# Altium footprint library Module.PcbLib: 12 footprints
Each footprint in its own frame and in the unit in brackets; x right, y up, seen from the top. Pads: shape width x height; smd on the part's side, far side on the other; paste and mask are expansions set on the pad; w line width, h text height; cw(c..) or ccw(c..) is an arc to the next point about the centre after c.
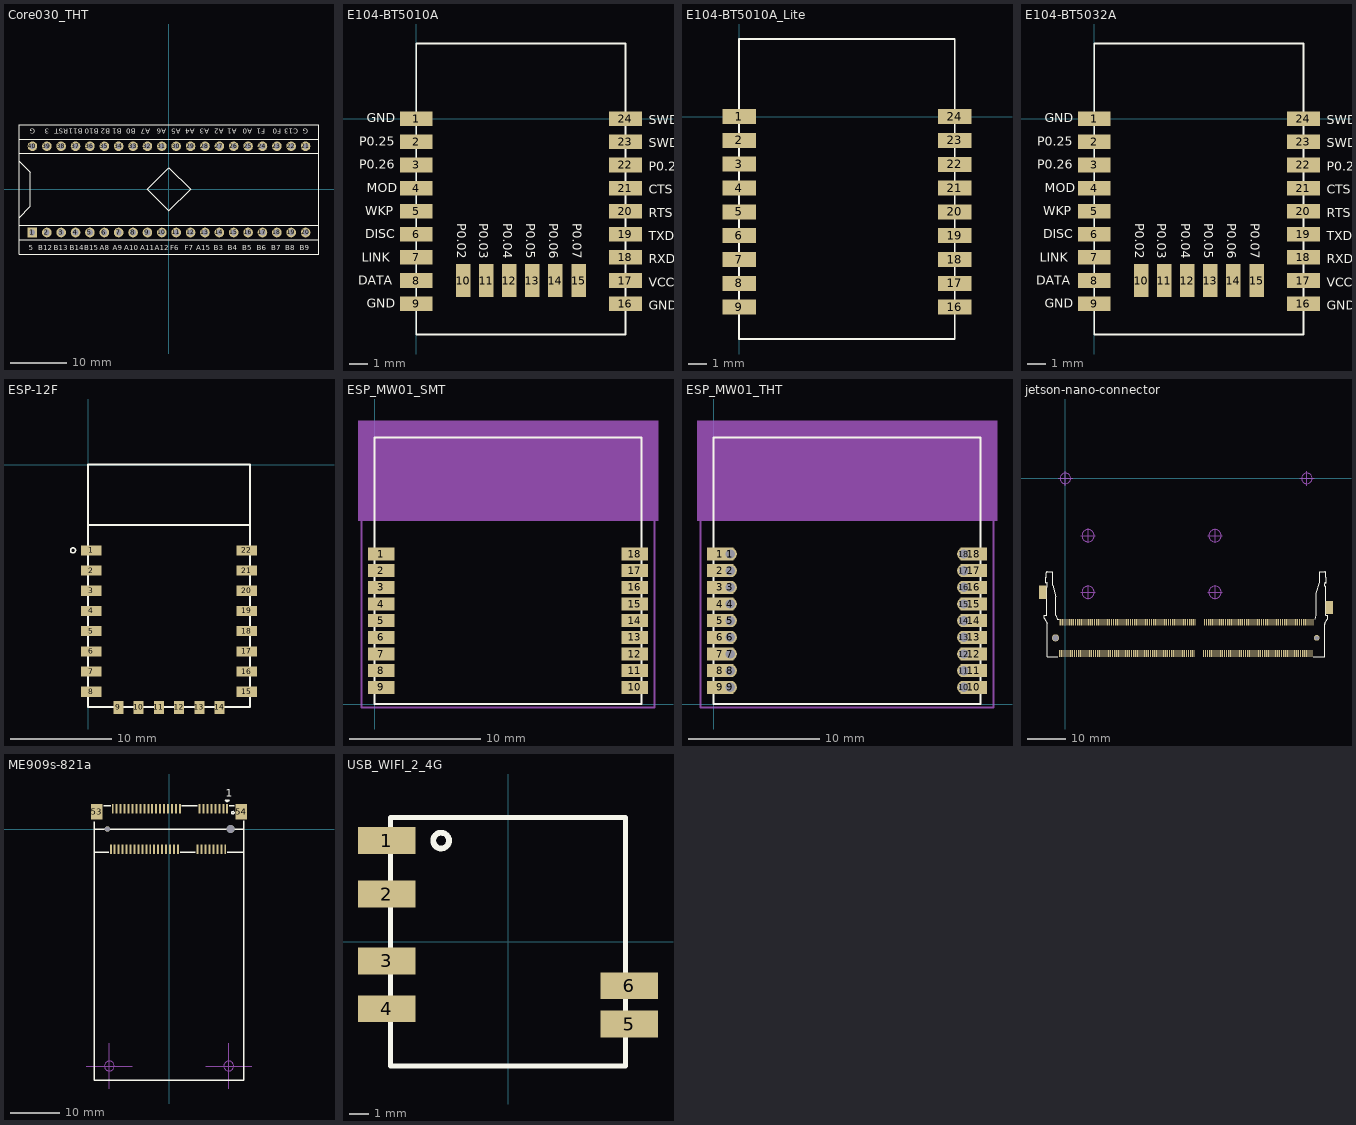
[diagram p0: the footprints below, top view; thin cyan lines are the x and y axes]

## Core030_THT [mm]
pads (40):
  rect 1.7x1.7 hole 1: 1(-24.13,-7.62)
  round 1.7 hole 1: 2(-21.59,-7.62) 3(-19.05,-7.62) 4(-16.51,-7.62) 5(-13.97,-7.62) 6(-11.43,-7.62) 7(-8.89,-7.62) 8(-6.35,-7.62) 9(-3.81,-7.62) 10(-1.27,-7.62) 11(1.27,-7.62) 12(3.81,-7.62) 13(6.35,-7.62) 14(8.89,-7.62) 15(11.43,-7.62) 16(13.97,-7.62) 17(16.51,-7.62) 18(19.05,-7.62) 19(21.59,-7.62) 20(24.13,-7.62) 21(24.13,7.62) 22(21.59,7.62) 23(19.05,7.62) 24(16.51,7.62) 25(13.97,7.62) 26(11.43,7.62) 27(8.89,7.62) 28(6.35,7.62) 29(3.81,7.62) 30(1.27,7.62) 31(-1.27,7.62) 32(-3.81,7.62) 33(-6.35,7.62) 34(-8.89,7.62) 35(-11.43,7.62) 36(-13.97,7.62) 37(-16.51,7.62) 38(-19.05,7.62) 39(-21.59,7.62) 40(-24.13,7.62)
Top Overlay:
  lines w0.2: -26.5,-8.89 26.5,-8.89 ; -26.5,-6.35 26.5,-6.35 ; -26.5,-5 -24.5,-3 -24.5,3 -26.5,5 ; -26.5,6.35 26.5,6.35 ; -26.5,8.89 26.5,8.89 ; -26.5,-11.43 -26.5,11.43 26.5,11.43 26.5,-11.43 -26.5,-11.43 ; -3.81,0 0,-3.81 3.81,0 0,3.81 -3.81,0
  text "B0" at -5.842,10.668 h0.89
  text "A2" at 9.652,10.668 h0.89
  text "3" at -21.115,10.668 h0.89
  text "A7" at -3.302,10.668 h0.89
  text "B10" at -12.446,10.668 h0.89
  text "F0" at 19.812,10.668 h0.89
  text "B11" at -15.24,10.668 h0.89
  text "A5" at 2.032,10.668 h0.89
  text "A4" at 4.572,10.668 h0.89
  text "B1" at -8.382,10.668 h0.89
  text "A1" at 11.938,10.668 h0.89
  text "C13" at 22.86,10.668 h0.89
  text "RST" at -17.78,10.668 h0.89
  text "G" at 24.638,10.668 h0.89
  text "B2" at -10.414,10.668 h0.89
  text "F1" at 17.018,10.668 h0.89
  text "A6" at -0.508,10.668 h0.89
  text "A0" at 14.732,10.668 h0.89
  text "A3" at 7.112,10.668 h0.89
  text "G" at -23.622,10.668 h0.89
  text "B7" at 18.034,-10.795 h0.89
  text "5" at -24.765,-10.795 h0.89
  text "B6" at 15.494,-10.795 h0.89
  text "A11" at -5.08,-10.795 h0.89
  text "B9" at 23.114,-10.795 h0.89
  text "A9" at -9.906,-10.795 h0.89
  text "B3" at 7.874,-10.795 h0.89
  text "B8" at 20.574,-10.795 h0.89
  text "B5" at 12.954,-10.795 h0.89
  text "B13" at -20.32,-10.795 h0.89
  text "B14" at -17.526,-10.795 h0.89
  text "A10" at -7.874,-10.795 h0.89
  text "B15" at -14.986,-10.795 h0.89
  text "A12" at -2.54,-10.795 h0.89
  text "A8" at -12.192,-10.795 h0.89
  text "B4" at 10.414,-10.795 h0.89
  text "A15" at 4.826,-10.795 h0.89
  text "F6" at 0.254,-10.795 h0.89
  text "F7" at 2.794,-10.795 h0.89
  text "B12" at -23.114,-10.795 h0.89

## E104-BT5010A [mm]
pads (24):
  rect 1.8x0.8 smd: 1(0,0) 2(0,-1.27) 3(0,-2.54) 4(0,-3.81) 5(0,-5.08) 6(0,-6.35) 7(0,-7.62) 8(0,-8.89) 9(0,-10.16) 16(11.5,-10.16) 17(11.5,-8.89) 18(11.5,-7.62) 19(11.5,-6.35) 20(11.5,-5.08) 21(11.5,-3.81) 22(11.5,-2.54) 23(11.5,-1.27) 24(11.5,0)
  rect 0.8x1.8 smd: 10(2.575,-8.89) 11(3.845,-8.89) 12(5.115,-8.89) 13(6.385,-8.89) 14(7.655,-8.89) 15(8.925,-8.89)
Top Overlay:
  lines w0.1: 0,-11.86 11.5,-11.86 11.5,4.14 0,4.14 0,-11.86
  text "GND" at -2.709,-0.2 h0.5
  text "P0.25" at -3.137,-1.475 h0.5
  text "P0.26" at -3.137,-2.75 h0.5
  text "MOD" at -2.709,-4.025 h0.5
  text "WKP" at -2.812,-5.3 h0.5
  text "DISC" at -2.806,-6.575 h0.5
  text "LINK" at -2.997,-7.85 h0.5
  text "DATA" at -3.2,-9.125 h0.5
  text "VCC" at 12.791,-9.225 h0.5
  text "RXD" at 12.791,-7.95 h0.5
  text "TXD" at 12.791,-6.675 h0.5
  text "RTS" at 12.791,-5.4 h0.5
  text "CTS" at 12.791,-4.125 h0.5
  text "P0.21/RST" at 12.791,-2.85 h0.5
  text "SWDCLK" at 12.791,-1.575 h0.5
  text "SWDIO" at 12.791,-0.3 h0.5
  text "P0.07" at 8.595,-5.737 h0.5
  text "P0.05" at 6.055,-5.737 h0.5
  text "P0.04" at 4.785,-5.737 h0.5
  text "P0.02" at 2.256,-5.737 h0.5
  text "P0.06" at 7.325,-5.737 h0.5
  text "P0.03" at 3.454,-5.737 h0.5
  text "GND" at -2.709,-10.4 h0.5
  text "GND" at 12.791,-10.5 h0.5

## E104-BT5010A_Lite [mm]
pads (18):
  rect 1.8x0.8 smd: 1(0,0) 2(0,-1.27) 3(0,-2.54) 4(0,-3.81) 5(0,-5.08) 6(0,-6.35) 7(0,-7.62) 8(0,-8.89) 9(0,-10.16) 16(11.5,-10.16) 17(11.5,-8.89) 18(11.5,-7.62) 19(11.5,-6.35) 20(11.5,-5.08) 21(11.5,-3.81) 22(11.5,-2.54) 23(11.5,-1.27) 24(11.5,0)
Top Overlay:
  lines w0.1: 0,-11.86 0,4.14 11.5,4.14 11.5,-11.86 0,-11.86
3D body: height 0.8, standoff 0, extent 0,-11.862 11.506,4.14
3D body: height 1.6, standoff 0.8, extent 0.711,-11.049 10.922,0.991

## E104-BT5032A [mm]
pads (24):
  rect 1.8x0.8 smd: 1(0,0) 2(0,-1.27) 3(0,-2.54) 4(0,-3.81) 5(0,-5.08) 6(0,-6.35) 7(0,-7.62) 8(0,-8.89) 9(0,-10.16) 16(11.5,-10.16) 17(11.5,-8.89) 18(11.5,-7.62) 19(11.5,-6.35) 20(11.5,-5.08) 21(11.5,-3.81) 22(11.5,-2.54) 23(11.5,-1.27) 24(11.5,0)
  rect 0.8x1.8 smd: 10(2.575,-8.89) 11(3.845,-8.89) 12(5.115,-8.89) 13(6.385,-8.89) 14(7.655,-8.89) 15(8.925,-8.89)
Top Overlay:
  lines w0.1: 0,-11.86 0,4.14 11.5,4.14 11.5,-11.86 0,-11.86
  text "GND" at 12.791,-10.5 h0.5
  text "GND" at -2.709,-10.4 h0.5
  text "P0.03" at 3.454,-5.737 h0.5
  text "P0.06" at 7.325,-5.737 h0.5
  text "P0.02" at 2.256,-5.737 h0.5
  text "P0.04" at 4.785,-5.737 h0.5
  text "P0.05" at 6.055,-5.737 h0.5
  text "P0.07" at 8.595,-5.737 h0.5
  text "SWDIO" at 12.791,-0.3 h0.5
  text "SWDCLK" at 12.791,-1.575 h0.5
  text "P0.21/RST" at 12.791,-2.85 h0.5
  text "CTS" at 12.791,-4.125 h0.5
  text "RTS" at 12.791,-5.4 h0.5
  text "TXD" at 12.791,-6.675 h0.5
  text "RXD" at 12.791,-7.95 h0.5
  text "VCC" at 12.791,-9.225 h0.5
  text "DATA" at -3.2,-9.125 h0.5
  text "LINK" at -2.997,-7.85 h0.5
  text "DISC" at -2.806,-6.575 h0.5
  text "WKP" at -2.812,-5.3 h0.5
  text "MOD" at -2.709,-4.025 h0.5
  text "P0.26" at -3.137,-2.75 h0.5
  text "P0.25" at -3.137,-1.475 h0.5
  text "GND" at -2.709,-0.2 h0.5

## ESP-12F [mm]
pads (22):
  rect 2x1 smd: 1(0.3,-8.5) 2(0.3,-10.5) 3(0.3,-12.5) 4(0.3,-14.5) 5(0.3,-16.5) 6(0.3,-18.5) 7(0.3,-20.5) 8(0.3,-22.5) 15(15.7,-22.5) 16(15.7,-20.5) 17(15.7,-18.5) 18(15.7,-16.5) 19(15.7,-14.5) 20(15.7,-12.5) 21(15.7,-10.5) 22(15.7,-8.5)
  rect 1x1.3 smd: 9(3,-24.05) 10(5,-24.05) 11(7,-24.05) 12(9,-24.05) 13(11,-24.05) 14(13,-24.05)
Top Overlay:
  circle w0.152: c-1.5,-8.5 r0.25
  lines w0.203: 0,-6 16,-6 ; 0,-24 0,0 16,0 16,-24 0,-24
Multi-Layer:
  pour cut-out: -5,-6 21,-6 21,5 -5,5

## ESP_MW01_SMT [mm]
pads (18):
  rect 2x1 smd: 1(0.508,11.43) 2(0.508,10.16) 3(0.508,8.89) 4(0.508,7.62) 5(0.508,6.35) 6(0.508,5.08) 7(0.508,3.81) 8(0.508,2.54) 9(0.508,1.27) 10(19.812,1.27) 11(19.812,2.54) 12(19.812,3.81) 13(19.812,5.08) 14(19.812,6.35) 15(19.812,7.62) 16(19.812,8.89) 17(19.812,10.16) 18(19.812,11.43)
Top Overlay:
  lines w0.152: 0,0 0,20.32 20.32,20.32 20.32,0 0,0
Mechanical 15:
  pour cut-out: -1.27,21.59 21.59,21.59 21.59,13.97 -1.27,13.97
  lines w0.152: -1.016,-0.254 21.336,-0.254 21.336,21.082 -1.016,21.082 -1.016,-0.254
3D body "ESP_MW01.step": height 2.45, standoff 0.2, extent 0,0 20.32,20.32

## ESP_MW01_THT [mm]
pads (36):
  rect 2x1 smd: 1(0.508,11.43) 2(0.508,10.16) 3(0.508,8.89) 4(0.508,7.62) 5(0.508,6.35) 6(0.508,5.08) 7(0.508,3.81) 8(0.508,2.54) 9(0.508,1.27) 10(19.812,1.27) 11(19.812,2.54) 12(19.812,3.81) 13(19.812,5.08) 14(19.812,6.35) 15(19.812,7.62) 16(19.812,8.89) 17(19.812,10.16) 18(19.812,11.43)
  round 1 hole 0.7: 1(1.27,11.43) 2(1.27,10.16) 3(1.27,8.89) 4(1.27,7.62) 5(1.27,6.35) 6(1.27,5.08) 7(1.27,3.81) 8(1.27,2.54) 9(1.27,1.27) 10(19.05,1.27) 11(19.05,2.54) 12(19.05,3.81) 13(19.05,5.08) 14(19.05,6.35) 15(19.05,7.62) 16(19.05,8.89) 17(19.05,10.16) 18(19.05,11.43)
Top Overlay:
  lines w0.152: 0,0 0,20.32 20.32,20.32 20.32,0 0,0
Mechanical 15:
  pour cut-out: -1.27,21.59 21.59,21.59 21.59,13.97 -1.27,13.97
  lines w0.152: -1.016,-0.254 21.336,-0.254 21.336,21.082 -1.016,21.082 -1.016,-0.254
3D body "PinHeader_1x09_P1.27mm_Vertical.step": height 16.3, standoff 10, extent 18,0.635 20.1,12.065
3D body "PinHeader_1x09_P1.27mm_Vertical.step": height 16.3, standoff 10, extent 0.22,0.635 2.32,12.065
3D body "ESP_MW01.step": height 16.45, standoff 14.2, extent 0,0 20.32,20.32
3D body "PinSocket_1x09_P1.27mm_Vertical.step": height 4.4, standoff -2.6, extent 0,0.635 2.54,12.065
3D body "PinSocket_1x09_P1.27mm_Vertical.step": height 4.4, standoff -2.6, extent 17.78,0.635 20.32,12.065

## jetson-nano-connector [mm]
pads (264):
  rect 0.3x1.75 smd paste-0.05: 1(-1.575,-46.1) 2(-1.325,-37.9) 3(-1.075,-46.1) 4(-0.825,-37.9) 5(-0.575,-46.1) 6(-0.325,-37.9) 7(-0.075,-46.1) 8(0.175,-37.9) 9(0.425,-46.1) 10(0.675,-37.9) 11(0.925,-46.1) 12(1.175,-37.9) 13(1.425,-46.1) 14(1.675,-37.9) 15(1.925,-46.1) 16(2.175,-37.9) 17(2.425,-46.1) 18(2.675,-37.9) 19(2.925,-46.1) 20(3.175,-37.9) 21(3.425,-46.1) 22(3.675,-37.9) 23(3.925,-46.1) 24(4.175,-37.9) 25(4.425,-46.1) 26(4.675,-37.9) 27(4.925,-46.1) 28(5.175,-37.9) 29(5.425,-46.1) 30(5.675,-37.9) 31(5.925,-46.1) 32(6.175,-37.9) 33(6.425,-46.1) 34(6.675,-37.9) 35(6.925,-46.1) 36(7.175,-37.9) 37(7.425,-46.1) 38(7.675,-37.9) 39(7.925,-46.1) 40(8.175,-37.9) 41(8.425,-46.1) 42(8.675,-37.9) 43(8.925,-46.1) 44(9.175,-37.9) 45(9.425,-46.1) 46(9.675,-37.9) 47(9.925,-46.1) 48(10.175,-37.9) 49(10.425,-46.1) 50(10.675,-37.9) 51(10.925,-46.1) 52(11.175,-37.9) 53(11.425,-46.1) 54(11.675,-37.9) 55(11.925,-46.1) 56(12.175,-37.9) 57(12.425,-46.1) 58(12.675,-37.9) 59(12.925,-46.1) 60(13.175,-37.9) 61(13.425,-46.1) 62(13.675,-37.9) 63(13.925,-46.1) 64(14.175,-37.9) 65(14.425,-46.1) 66(14.675,-37.9) 67(14.925,-46.1) 68(15.175,-37.9) 69(15.425,-46.1) 70(15.675,-37.9) 71(15.925,-46.1) 72(16.175,-37.9) 73(16.425,-46.1) 74(16.675,-37.9) 75(16.925,-46.1) 76(17.175,-37.9) 77(17.425,-46.1) 78(17.675,-37.9) 79(17.925,-46.1) 80(18.175,-37.9) 81(18.425,-46.1) 82(18.675,-37.9) 83(18.925,-46.1) 84(19.175,-37.9) 85(19.425,-46.1) 86(19.675,-37.9) 87(19.925,-46.1) 88(20.175,-37.9) 89(20.425,-46.1) 90(20.675,-37.9) 91(20.925,-46.1) 92(21.175,-37.9) 93(21.425,-46.1) 94(21.675,-37.9) 95(21.925,-46.1) 96(22.175,-37.9) 97(22.425,-46.1) 98(22.675,-37.9) 99(22.925,-46.1) 100(23.175,-37.9) 101(23.425,-46.1) 102(23.675,-37.9) 103(23.925,-46.1) 104(24.175,-37.9) 105(24.425,-46.1) 106(24.675,-37.9) 107(24.925,-46.1) 108(25.175,-37.9) 109(25.425,-46.1) 110(25.675,-37.9) 111(25.925,-46.1) 112(26.175,-37.9) 113(26.425,-46.1) 114(26.675,-37.9) 115(26.925,-46.1) 116(27.175,-37.9) 117(27.425,-46.1) 118(27.675,-37.9) 119(27.925,-46.1) 120(28.175,-37.9) 121(28.425,-46.1) 122(28.675,-37.9) 123(28.925,-46.1) 124(29.175,-37.9) 125(29.425,-46.1) 126(29.675,-37.9) 127(29.925,-46.1) 128(30.175,-37.9) 129(30.425,-46.1) 130(30.675,-37.9) 131(30.925,-46.1) 132(31.175,-37.9) 133(31.425,-46.1) 134(31.675,-37.9) 135(31.925,-46.1) 136(32.175,-37.9) 137(32.425,-46.1) 138(32.675,-37.9) 139(32.925,-46.1) 140(33.175,-37.9) 141(33.425,-46.1) 142(33.675,-37.9) 143(33.925,-46.1) 144(34.175,-37.9) 145(36.425,-46.1) 146(36.675,-37.9) 147(36.925,-46.1) 148(37.175,-37.9) 149(37.425,-46.1) 150(37.675,-37.9) 151(37.925,-46.1) 152(38.175,-37.9) 153(38.425,-46.1) 154(38.675,-37.9) 155(38.925,-46.1) 156(39.175,-37.9) 157(39.425,-46.1) 158(39.675,-37.9) 159(39.925,-46.1) 160(40.175,-37.9) 161(40.425,-46.1) 162(40.675,-37.9) 163(40.925,-46.1) 164(41.175,-37.9) 165(41.425,-46.1) 166(41.675,-37.9) 167(41.925,-46.1) 168(42.175,-37.9) 169(42.425,-46.1) 170(42.675,-37.9) 171(42.925,-46.1) 172(43.175,-37.9) 173(43.425,-46.1) 174(43.675,-37.9) 175(43.925,-46.1) 176(44.175,-37.9) 177(44.425,-46.1) 178(44.675,-37.9) 179(44.925,-46.1) 180(45.175,-37.9) 181(45.425,-46.1) 182(45.675,-37.9) 183(45.925,-46.1) 184(46.175,-37.9) 185(46.425,-46.1) 186(46.675,-37.9) 187(46.925,-46.1) 188(47.175,-37.9) 189(47.425,-46.1) 190(47.675,-37.9) 191(47.925,-46.1) 192(48.175,-37.9) 193(48.425,-46.1) 194(48.675,-37.9) 195(48.925,-46.1) 196(49.175,-37.9) 197(49.425,-46.1) 198(49.675,-37.9) 199(49.925,-46.1) 200(50.175,-37.9) 201(50.425,-46.1) 202(50.675,-37.9) 203(50.925,-46.1) 204(51.175,-37.9) 205(51.425,-46.1) 206(51.675,-37.9) 207(51.925,-46.1) 208(52.175,-37.9) 209(52.425,-46.1) 210(52.675,-37.9) 211(52.925,-46.1) 212(53.175,-37.9) 213(53.425,-46.1) 214(53.675,-37.9) 215(53.925,-46.1) 216(54.175,-37.9) 217(54.425,-46.1) 218(54.675,-37.9) 219(54.925,-46.1) 220(55.175,-37.9) 221(55.425,-46.1) 222(55.675,-37.9) 223(55.925,-46.1) 224(56.175,-37.9) 225(56.425,-46.1) 226(56.675,-37.9) 227(56.925,-46.1) 228(57.175,-37.9) 229(57.425,-46.1) 230(57.675,-37.9) 231(57.925,-46.1) 232(58.175,-37.9) 233(58.425,-46.1) 234(58.675,-37.9) 235(58.925,-46.1) 236(59.175,-37.9) 237(59.425,-46.1) 238(59.675,-37.9) 239(59.925,-46.1) 240(60.175,-37.9) 241(60.425,-46.1) 242(60.675,-37.9) 243(60.925,-46.1) 244(61.175,-37.9) 245(61.425,-46.1) 246(61.675,-37.9) 247(61.925,-46.1) 248(62.175,-37.9) 249(62.425,-46.1) 250(62.675,-37.9) 251(62.925,-46.1) 252(63.175,-37.9) 253(63.425,-46.1) 254(63.675,-37.9) 255(63.925,-46.1) 256(64.175,-37.9) 257(64.425,-46.1) 258(64.675,-37.9) 259(64.925,-46.1) 260(65.175,-37.9)
  rect 2x3.5 smd paste-0.05: 261(69.525,-34) 262(-5.975,-30)
  round 1.9 hole 1.6 unplated: M(-2.6,-42)
  round 1.5 hole 1.1 unplated: M(66.2,-42)
Top Overlay:
  lines w0.1: -4.954,-28.6 -4.954,-36 -5.5,-36.05 ; -4.878,-28.6 ccw(c-4.878,-28.45) -4.728,-28.45 -4.728,-27.667 ccw(c-4.878,-27.667) -4.878,-27.517 -5.127,-27.517 -5.127,-26.028 -4.978,-26.028 -4.978,-24.813 cw(c-4.778,-24.813) -4.778,-24.613 -3.871,-24.613 -3.871,-24.61 -3.371,-24.61 -3.371,-28.128 -2.5,-31.166 -2.5,-36.05 -2.15,-37.15 -1.65,-37.15 ; 65.85,-37.15 66.1,-36.05 ; -5.5,-36.813 ccw(c-5,-36.813) -5.43,-37.068 ; -5.5,-36.813 ccw(c-5,-36.813) -5.43,-37.068 ; -5.5,-36.813 -5.5,-36.05 ; -5.5,-36.813 -5.5,-36.05 ; -5.43,-37.068 -4.77,-38.182 ; -5.43,-37.068 -4.77,-38.182 ; -4.77,-38.182 cw(c-5.2,-38.437) -4.7,-38.437 ; -4.77,-38.182 cw(c-5.2,-38.437) -4.7,-38.437 ; -4.7,-47 -1.95,-47 -4.7,-47 ; -4.7,-47 -4.7,-38.437 ; -4.7,-47 -4.7,-38.437 ; 66.1,-36.05 66.1,-30.318 ; 66.1,-36.05 66.1,-30.318 ; 66.1,-30.318 66.98,-27.318 66.98,-24.595 67.59,-24.595 ccw(c67.63,-24.45) 67.63,-24.6 68.35,-24.6 cw(c68.35,-24.8) 68.55,-24.8 68.55,-26 68.736,-26 68.736,-27.5 68.5,-27.5 ccw(c68.5,-27.7) 68.3,-27.7 68.3,-28.3 ccw(c68.5,-28.3) 68.5,-28.5 68.545,-28.5 68.545,-36 69.1,-36.05 ; 68.3,-47 65.3,-47 68.3,-47 ; 68.3,-47 68.3,-38.437 ; 68.3,-47 68.3,-38.437 ; 68.3,-38.437 cw(c68.8,-38.437) 68.37,-38.182 ; 68.3,-38.437 cw(c68.8,-38.437) 68.37,-38.182 ; 68.37,-38.182 69.03,-37.068 ; 68.37,-38.182 69.03,-37.068 ; 69.03,-37.068 ccw(c68.6,-36.813) 69.1,-36.813 ; 69.03,-37.068 ccw(c68.6,-36.813) 69.1,-36.813 ; 69.1,-36.813 69.1,-36.05 ; 69.1,-36.813 69.1,-36.05
Mechanical 3:
  circle w0.1: c63.6,0 r1.375
  circle w0.1: c39.413,-30.002 r1.6
  circle w0.1: c39.413,-15.098 r1.6
  circle w0.1: c5.987,-15.098 r1.6
  circle w0.1: c5.987,-30.002 r1.6
  circle w0.1: c0,0 r1.375
  lines w0.1: -1.9,0 0,0 ; 0,-1.9 0,0 ; 0,1.9 0,0 ; 1.9,0 0,0 ; 4.094,-29.997 5.994,-29.997 ; 4.094,-15.088 5.994,-15.088 ; 5.994,-31.897 5.994,-29.997 ; 5.994,-28.097 5.994,-29.997 ; 5.994,-16.988 5.994,-15.088 ; 5.994,-13.188 5.994,-15.088 ; 7.894,-29.997 5.994,-29.997 ; 7.894,-15.088 5.994,-15.088 ; 37.521,-29.997 39.421,-29.997 ; 37.521,-15.113 39.421,-15.113 ; 39.421,-31.897 39.421,-29.997 ; 39.421,-28.097 39.421,-29.997 ; 39.421,-17.013 39.421,-15.113 ; 39.421,-13.213 39.421,-15.113 ; 41.321,-29.997 39.421,-29.997 ; 41.321,-15.113 39.421,-15.113 ; 61.702,0 63.602,0 ; 63.602,-1.9 63.602,0 ; 63.602,1.9 63.602,0 ; 65.502,0 63.602,0
  text "its real position may differ" at 21.15,-1.2 h0.76
  text "module mounting holes placement taken from 3D models" at 12.125,-0.125 h0.76
3D body "c-2309413-1-1-3d.stp": height 9.23, standoff -0.42, extent -6.275,-46.9 69.824,-21.05

## jetson-nano-module [mm]
height 13.55
3D body "n.step": height 10.73, standoff 5.48, extent -3,-42 66.6,3

## jetson-tx2-nx-module [mm]
height 13.55
3D body "P3636-ENVELOPE.stp": height 9.78, standoff 4.1, extent 0,-45 69.6,0

## ME909s-821a [mm]
pads (56):
  rect 0.4x2 smd: 1(11.8,4.1) 2(11.4,-4.1) 3(11,4.1) 4(10.6,-4.1) 5(10.2,4.1) 6(9.8,-4.1) 7(9.4,4.1) 8(9,-4.1) 9(8.6,4.1) 10(8.2,-4.1) 11(7.8,4.1) 12(7.4,-4.1) 13(7,4.1) 14(6.6,-4.1) 15(6.2,4.1) 16(5.8,-4.1) 17(2.2,4.1) 18(1.8,-4.1) 19(1.4,4.1) 20(1,-4.1) 21(0.6,4.1) 22(0.2,-4.1) 23(-0.2,4.1) 24(-0.6,-4.1) 25(-1,4.1) 26(-1.4,-4.1) 27(-1.8,4.1) 28(-2.2,-4.1) 29(-2.6,4.1) 30(-3,-4.1) 31(-3.4,4.1) 32(-3.8,-4.1) 33(-4.2,4.1) 34(-4.6,-4.1) 35(-5,4.1) 36(-5.4,-4.1) 37(-5.8,4.1) 38(-6.2,-4.1) 39(-6.6,4.1) 40(-7,-4.1) 41(-7.4,4.1) 42(-7.8,-4.1) 43(-8.2,4.1) 44(-8.6,-4.1) 45(-9,4.1) 46(-9.4,-4.1) 47(-9.8,4.1) 48(-10.2,-4.1) 49(-10.6,4.1) 50(-11,-4.1) 51(-11.4,4.1) 52(-11.8,-4.1)
  rect 2.3x3.2 smd: 53(-14.65,3.5) 54(14.65,3.5)
  round 1.1 hole 1.1 unplated: ""(-12.5,0)
  round 1.6 hole 1.6 unplated: ""(12.5,0)
Top Overlay:
  circle w0.254: c12.954,3.302 r0.254
  lines w0.254: -15.113,1.524 -15.113,-4.699 -12.231,-4.699 ; -13.208,4.699 -11.831,4.699 ; 2.231,-4.699 5.369,-4.699 ; 2.631,4.699 5.769,4.699 ; 11.831,-4.699 15.113,-4.699 15.113,1.651 ; 12.231,4.699 13.208,4.699 ; -15.2,-50.95 -15.2,0 15.2,0 15.2,-50.95 -15.2,-50.95 ; 11.419,5.878 11.8,5.497 12.181,5.878 11.8,5.878 11.419,5.878
  text "1" at 11.546,6.589 h1.52
Mechanical 15:
  circle w0.152: c-12.1,-48.05 r1
  circle w0.152: c12.1,-48.05 r1
  lines w0.152: -16.75,-48.05 -12.1,-48.05 ; -12.1,-52.7 -12.1,-48.05 ; -12.1,-43.4 -12.1,-48.05 ; -7.45,-48.05 -12.1,-48.05 ; 7.45,-48.05 12.1,-48.05 ; 12.1,-52.7 12.1,-48.05 ; 12.1,-43.4 12.1,-48.05 ; 16.75,-48.05 12.1,-48.05

## USB_WIFI_2_4G [mm]
pads (6):
  rect 3x1.4 smd: 1(-6.35,5.3) 2(-6.35,2.5) 3(-6.35,-1) 4(-6.35,-3.5) 5(6.35,-4.3) 6(6.35,-2.3)
Top Overlay:
  circle w0.3: c-3.5,5.3 r0.412
  lines w0.254: -6.15,-6.5 6.15,-6.5 6.15,6.5 -6.15,6.5 -6.15,-6.5